# Altium integrated library LP2985-33DBVR.IntLib: 1 symbol
Pins are listed as number, name and electrical type; pins without a type are passive.

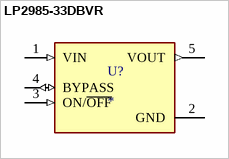
[diagram p0: symbol LP2985-33DBVR]

## LP2985-33DBVR
designator U?
150-mA, 16-V, low-dropout voltage regulator with enable; MF: Texas Instruments; MP: LP2985-33DBVR; SnapEDA_Link: https://www.snapeda.com/parts/LP2985-33DBVR/Texas+Instruments/view-part/?ref=snap; Package: SOT-23-5 Texas Instruments; Value: *; Check_prices: https://www.snapeda.com/parts/LP2985-33DBVR/Texas+Instruments/view-part/?ref=eda
footprint SOT95P280X145-5N
pins: 1 VIN (in), 2 GND (power), 3 ON/~{OFF} (in), 4 BYPASS (io), 5 VOUT (out)